# Altium footprint library DPAK.PcbLib: 3 footprints
Each footprint in its own frame and in the unit in brackets; x right, y up, seen from the top. Pads: shape width x height; smd on the part's side, far side on the other; paste and mask are expansions set on the pad; w line width, h text height; cw(c..) or ccw(c..) is an arc to the next point about the centre after c.
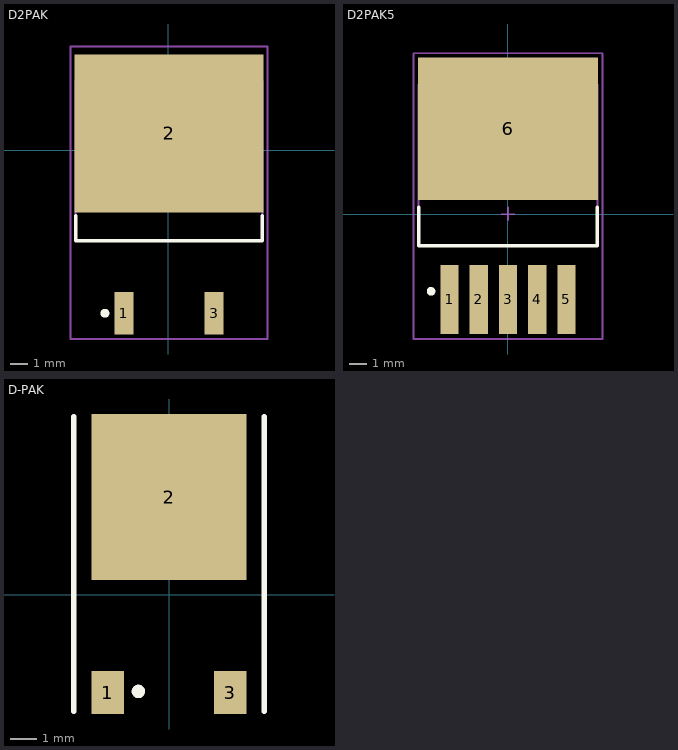
[diagram p0: the footprints below, top view; thin cyan lines are the x and y axes]

## D2PAK [mm] "D2Pak-(TO263/SOT404)"
pads (3):
  rect 1.05x2.4 smd: 1(-2.489,-9.188) 3(2.591,-9.188)
  rect 10.65x8.9 smd: 2(0.054,0.962)
Top Overlay:
  circle w0.25: c-3.564,-9.188 r0.125
  lines w0.2: -5.199,-3.688 -5.199,-5.088 5.301,-5.088 5.301,-3.688
Mechanical 13:
  lines w0.1: -5.224,-5.088 5.326,-5.088 5.326,3.912 -5.224,3.912 -5.224,-5.088
Mechanical 15:
  lines w0.1: -0.449,-2.388 0.551,-2.388 ; 0.051,-2.888 0.051,-1.888 ; -5.499,-10.638 5.601,-10.638 5.601,5.862 -5.499,5.862 -5.499,-10.638
3D body "SW3dPS-DPAK.STEP": height 4.98, standoff -0.03, extent -5.026,-10.054 5.134,5.21

## D2PAK5 [mm] "D2PAK5-(TO263-5)"
pads (6):
  rect 1.05x4 smd: 1(-3.4,-4.962) 2(-1.7,-4.962) 3(0,-4.962) 4(1.7,-4.962) 5(3.4,-4.962)
  rect 10.45x8.3 smd: 6(0,4.963)
Top Overlay:
  circle w0.25: c-4.475,-4.487 r0.125
  lines w0.2: -5.2,0.413 -5.2,-1.837 5.2,-1.837 5.2,0.413
Mechanical 13:
  lines w0.1: -5.2,-1.837 -5.2,7.563 5.2,7.563 5.2,-1.837 -5.2,-1.837
Mechanical 15:
  lines w0.1: -0.381,0 0.381,0 ; 0,-0.356 0,0.381 ; -5.5,-7.263 -5.5,9.363 5.5,9.363 5.5,-7.263 -5.5,-7.263
3D body "User Library-D²PAK TO-263-5.STEP": height 4.87, standoff 0, extent -5.08,-5.135 5.08,9.095

## D-PAK [mm] "D-PAK/TO-252-AA; 3 Leads (1 Cropped); Body 10.4 (inc. leads) x 6.7 mm (LxW max)"
height 2.38
pads (3):
  rect 1.2x1.6 smd: 1(-2.285,-3.65) 3(2.285,-3.65)
  rect 5.8x6.2 smd: 2(0,3.65)
Top Overlay:
  circle w0.25: c-1.143,-3.607 r0.125
  lines w0.2: -3.556,-4.343 -3.556,6.657 ; 3.556,-4.343 3.556,6.657
3D body "User Library-DPAK_TO-252AA.STEP": height 2.37, standoff -0.03, extent -3.367,-4.091 3.367,6.009